# EAGLE library part LT1013 (library Synth_Glove)
Linear Technology dual input precision op amps
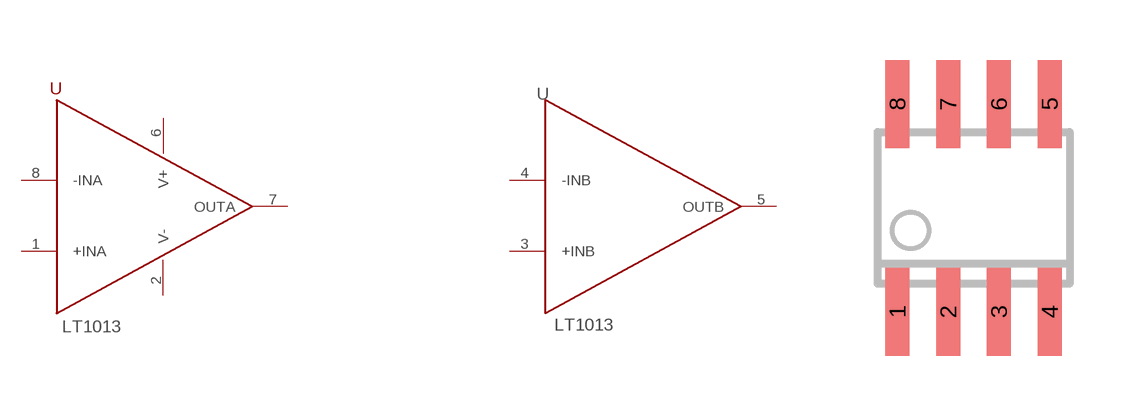
[diagram p0: symbol with the pads of SO08; footprint SO08]

Designator prefix U

## LT1013  [SO08]
1  +INA
2  V-  pwr
3  +INB
4  -INB
5  OUTB
6  V+  pwr
7  OUTA
8  -INA

## Footprint SO08 (pad centres in mm)
SMALL OUTLINE INTEGRATED CIRCUIT body 3.9 mm/JEDEC MS-012AA
smd 0.6 x 2.2: 1 -1.905,-2.6; 2 -0.635,-2.6; 3 0.635,-2.6; 4 1.905,-2.6; 5 1.905,2.6; 6 0.635,2.6; 7 -0.635,2.6; 8 -1.905,2.6